# Altium footprint library STM32F732RE.PCBLIB: 1 footprints
Each footprint in its own frame and in the unit in brackets; x right, y up, seen from the top. Pads: shape width x height; smd on the part's side, far side on the other; paste and mask are expansions set on the pad; w line width, h text height; cw(c..) or ccw(c..) is an arc to the next point about the centre after c.
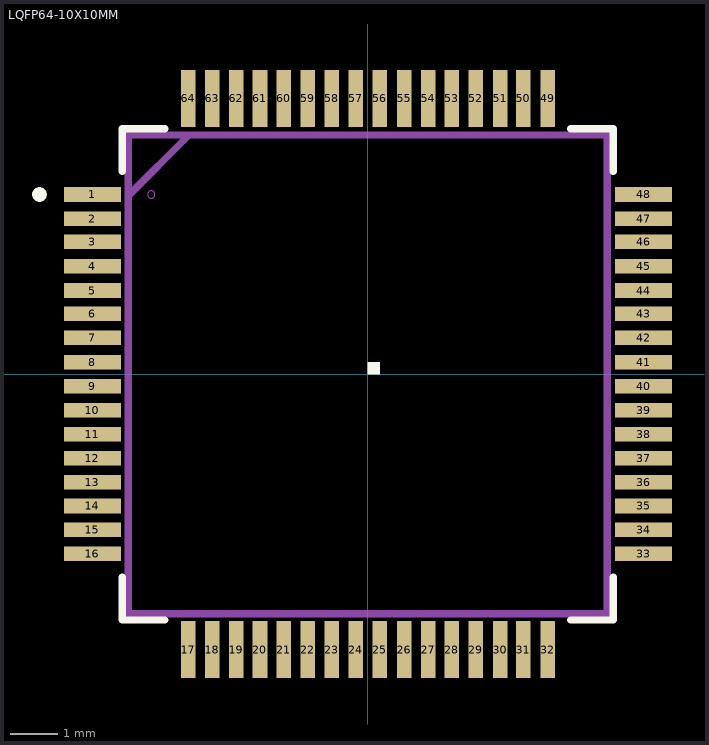
[diagram p0: the footprint, top view; thin cyan lines are the x and y axes]

## LQFP64-10X10MM [mil]
pads (64):
  rect 47x12 smd: 1(-226.38,148) 2(-226.38,128) 3(-226.38,109) 4(-226.38,89) 5(-226.38,69) 6(-226.38,50) 7(-226.38,30) 8(-226.38,10) 9(-226.38,-9.84) 10(-226.38,-29.53) 11(-226.38,-49.21) 12(-226.38,-68.9) 13(-226.38,-88.58) 14(-226.38,-108.27) 15(-226.38,-127.95) 16(-226.38,-147.64) 33(227,-147.64) 34(227,-127.95) 35(227,-108.27) 36(227,-88.58) 37(227,-68.9) 38(227,-49.21) 39(227,-29.53) 40(227,-9.84) 41(227,10) 42(227,30) 43(227,50) 44(227,69) 45(227,89) 46(227,109) 47(227,128) 48(227,148)
  rect 12x47 smd: 17(-147.64,-226.38) 18(-127.95,-226.38) 19(-108.27,-226.38) 20(-88.58,-226.38) 21(-68.9,-226.38) 22(-49.21,-226.38) 23(-29.53,-226.38) 24(-9.84,-226.38) 25(10,-226.38) 26(30,-226.38) 27(50,-226.38) 28(69,-226.38) 29(89,-226.38) 30(109,-226.38) 31(128,-226.38) 32(148,-226.38) 49(148,227) 50(128,227) 51(109,227) 52(89,227) 53(69,227) 54(50,227) 55(30,227) 56(10,227) 57(-9.84,227) 58(-29.53,227) 59(-49.21,227) 60(-68.9,227) 61(-88.58,227) 62(-108.27,227) 63(-127.95,227) 64(-147.64,227)
Top Overlay:
  region: 0,0 10,0 10,10 0,10
  region: 0,0 10,0 10,10 0,10
  region: 0,0 10,0 10,10 0,10
  region: 0,0 10,0 10,10 0,10
  region: 0,0 10,0 10,10 0,10
  region: 0,0 10,0 10,10 0,10
  lines w6: -202,-167 -202,-202 -167,-202 ; -202,167 -202,202 -167,202 ; 167,-202 202,-202 202,-167 ; 167,202 202,202 202,167 ; -273,148 ccw(c-270,148) -267,148 ccw(c-270,148) -273,148
Mechanical 16:
  lines w0: -181,148 ccw(c-178,148) -175,148 ccw(c-178,148) -181,148
  lines w6: -197,147 -147,197 ; -197,-197 197,-197 197,197 -197,197 -197,-197